# Altium footprint library SOT65P210X110-6L20N.PcbLib: 1 footprints
Each footprint in its own frame and in the unit in brackets; x right, y up, seen from the top. Pads: shape width x height; smd on the part's side, far side on the other; paste and mask are expansions set on the pad; w line width, h text height; cw(c..) or ccw(c..) is an arc to the next point about the centre after c.
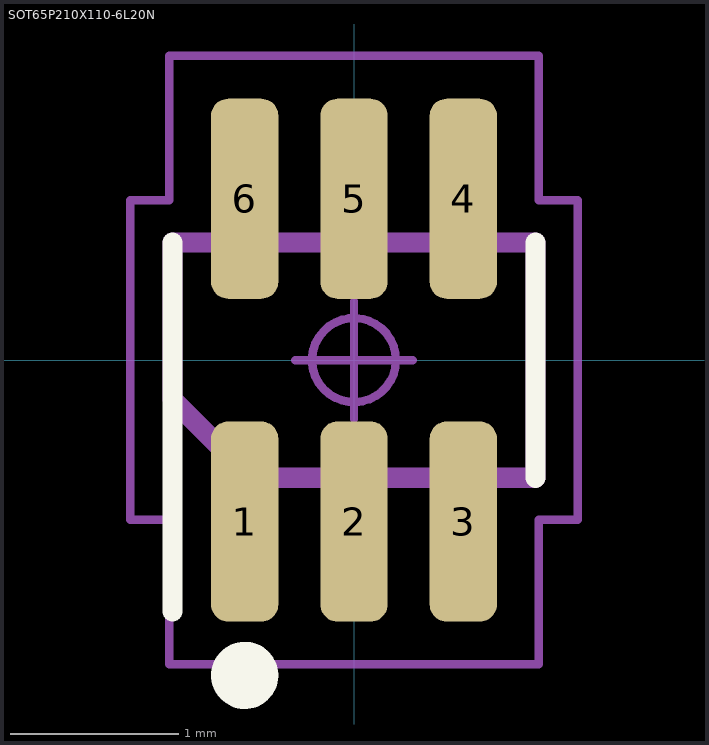
[diagram p0: the footprint, top view; thin cyan lines are the x and y axes]

## SOT65P210X110-6L20N [mm] "Small Outline Transistor (SOT23), 0.65 mm pitch; 6 pin, 2.00 mm L X 1.25 mm W X 1.10 mm H body"
height 1.1
pads (6):
  rrect50% 0.4x1.19 smd: 1(-0.65,-0.96) 2(0,-0.96) 3(0.65,-0.96) 4(0.65,0.96) 5(0,0.96) 6(-0.65,0.96)
Top Overlay:
  circle w0.2: c-0.65,-1.875 r0.1
  lines w0.12: -1.08,-1.495 -1.08,0.7 ; 1.08,-0.7 1.08,0.7
Fab - Detail1, HDI1:
  lines w0.12: -1.08,-0.233 -1.08,0.7 1.08,0.7 1.08,-0.7 -0.613,-0.7 -1.08,-0.233
Courtyards/Models - Top:
  circle w0.05: c0,0 r0.25
  lines w0.05: -0.35,0 0.35,0 ; 0,-0.35 0,0.35 ; -1.33,-0.95 -1.33,0.95 -1.1,0.95 -1.1,1.81 1.1,1.81 1.1,0.95 1.33,0.95 1.33,-0.95 1.1,-0.95 1.1,-1.81 -1.1,-1.81 -1.1,-0.95 -1.33,-0.95